# Altium schematic symbol library Capacitor.SchLib: 1 symbol
Pins are listed as number, name and electrical type; pins without a type are passive.

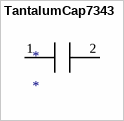
[diagram p0: symbol TantalumCap7343]

## TantalumCap7343
designator *
footprint TantalumCap7343
pins: 1 VCC, 2 GND